# Altium footprint library Daxxn_Packages.PcbLib: 84 footprints (part 1 of 6)
Each footprint in its own frame and in the unit in brackets; x right, y up, seen from the top. Pads: shape width x height; smd on the part's side, far side on the other; paste and mask are expansions set on the pad; w line width, h text height; cw(c..) or ccw(c..) is an arc to the next point about the centre after c.
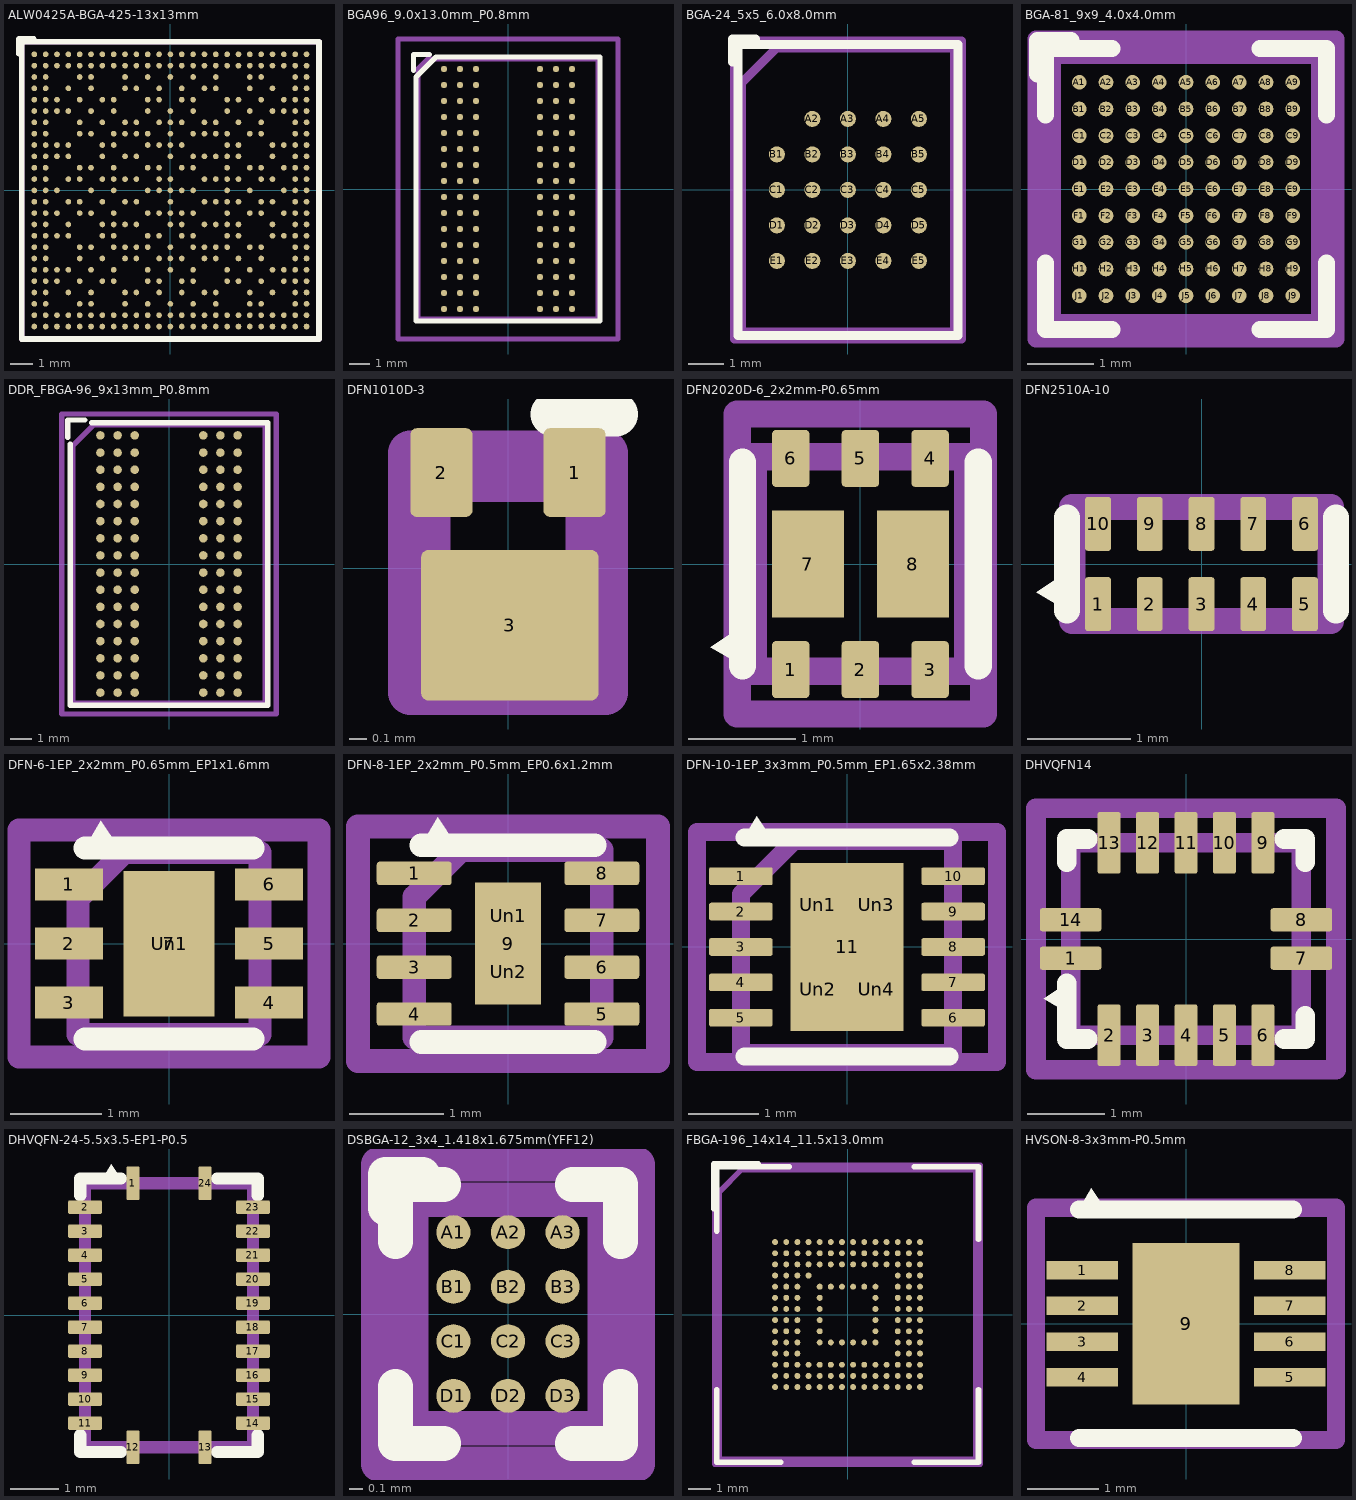
[diagram p0: the footprints below, top view; thin cyan lines are the x and y axes]

## ALW0425A-BGA-425-13x13mm [mm]
pads (425):
  round 0.25 smd: A1(-6,6) A2(-5.5,6) A3(-5,6) A4(-4.5,6) A5(-4,6) A6(-3.5,6) A7(-3,6) A8(-2.5,6) A9(-2,6) A10(-1.5,6) A11(-1,6) A12(-0.5,6) A13(0,6) A14(0.5,6) A15(1,6) A16(1.5,6) A17(2,6) A18(2.5,6) A19(3,6) A20(3.5,6) A21(4,6) A22(4.5,6) A23(5,6) A24(5.5,6) A25(6,6) AA1(-6,-4) AA2(-5.5,-4) AA3(-5,-4) AA5(-4,-4) AA7(-3,-4) AA8(-2.5,-4) AA11(-1,-4) AA12(-0.5,-4) AA14(0.5,-4) AA15(1,-4) AA18(2.5,-4) AA19(3,-4) AA21(4,-4) AA23(5,-4) AA24(5.5,-4) AA25(6,-4) AB1(-6,-4.5) AB2(-5.5,-4.5) AB4(-4.5,-4.5) AB6(-3.5,-4.5) AB9(-2,-4.5) AB10(-1.5,-4.5) AB12(-0.5,-4.5) AB14(0.5,-4.5) AB16(1.5,-4.5) AB17(2,-4.5) AB20(3.5,-4.5) AB22(4.5,-4.5) AB24(5.5,-4.5) AB25(6,-4.5) AC1(-6,-5) AC2(-5.5,-5) AC5(-4,-5) AC6(-3.5,-5) AC9(-2,-5) AC11(-1,-5) AC13(0,-5) AC15(1,-5) AC17(2,-5) AC20(3.5,-5) AC21(4,-5) AC24(5.5,-5) AC25(6,-5) AD1(-6,-5.5) AD2(-5.5,-5.5) AD3(-5,-5.5) AD4(-4.5,-5.5) AD5(-4,-5.5) AD6(-3.5,-5.5) AD7(-3,-5.5) AD8(-2.5,-5.5) AD9(-2,-5.5) AD10(-1.5,-5.5) AD11(-1,-5.5) AD12(-0.5,-5.5) AD13(0,-5.5) AD14(0.5,-5.5) AD15(1,-5.5) AD16(1.5,-5.5) AD17(2,-5.5) AD18(2.5,-5.5) AD19(3,-5.5) AD20(3.5,-5.5) AD21(4,-5.5) AD22(4.5,-5.5) AD23(5,-5.5) AD24(5.5,-5.5) AD25(6,-5.5) AE1(-6,-6) AE2(-5.5,-6) AE3(-5,-6) AE4(-4.5,-6) AE5(-4,-6) AE6(-3.5,-6) AE7(-3,-6) AE8(-2.5,-6) AE9(-2,-6) AE10(-1.5,-6) AE11(-1,-6) AE12(-0.5,-6) AE13(0,-6) AE14(0.5,-6) AE15(1,-6) AE16(1.5,-6) AE17(2,-6) AE18(2.5,-6) AE19(3,-6) AE20(3.5,-6) AE21(4,-6) AE22(4.5,-6) AE23(5,-6) AE24(5.5,-6) AE25(6,-6) B1(-6,5.5) B2(-5.5,5.5) B3(-5,5.5) B4(-4.5,5.5) B5(-4,5.5) B6(-3.5,5.5) B7(-3,5.5) B8(-2.5,5.5) B9(-2,5.5) B10(-1.5,5.5) B11(-1,5.5) B12(-0.5,5.5) B13(0,5.5) B14(0.5,5.5) B15(1,5.5) B16(1.5,5.5) B17(2,5.5) B18(2.5,5.5) B19(3,5.5) B20(3.5,5.5) B21(4,5.5) B22(4.5,5.5) B23(5,5.5) B24(5.5,5.5) B25(6,5.5) C1(-6,5) C2(-5.5,5) C5(-4,5) C6(-3.5,5) C9(-2,5) C11(-1,5) C13(0,5) C15(1,5) C17(2,5) C20(3.5,5) C21(4,5) C24(5.5,5) C25(6,5) D1(-6,4.5) D2(-5.5,4.5) D4(-4.5,4.5) D6(-3.5,4.5) D9(-2,4.5) D10(-1.5,4.5) D12(-0.5,4.5) D14(0.5,4.5) D16(1.5,4.5) D17(2,4.5) D20(3.5,4.5) D22(4.5,4.5) D24(5.5,4.5) D25(6,4.5) E1(-6,4) E2(-5.5,4) E3(-5,4) E5(-4,4) E7(-3,4) E8(-2.5,4) E11(-1,4) E12(-0.5,4) E14(0.5,4) E15(1,4) E18(2.5,4) E19(3,4) E21(4,4) E23(5,4) E24(5.5,4) E25(6,4) F1(-6,3.5) F2(-5.5,3.5) F3(-5,3.5) F4(-4.5,3.5) F6(-3.5,3.5) F8(-2.5,3.5) F11(-1,3.5) F13(0,3.5) F15(1,3.5) F18(2.5,3.5) F20(3.5,3.5) F22(4.5,3.5) F23(5,3.5) F24(5.5,3.5) F25(6,3.5) G1(-6,3) G2(-5.5,3) G5(-4,3) G7(-3,3) G9(-2,3) G10(-1.5,3) G12(-0.5,3) G13(0,3) G14(0.5,3) G16(1.5,3) G17(2,3) G19(3,3) G21(4,3) G24(5.5,3) G25(6,3) H1(-6,2.5) H2(-5.5,2.5) H5(-4,2.5) H6(-3.5,2.5) H8(-2.5,2.5) H9(-2,2.5) H10(-1.5,2.5) H11(-1,2.5) H13(0,2.5) H15(1,2.5) H16(1.5,2.5) H17(2,2.5) H18(2.5,2.5) H20(3.5,2.5) H21(4,2.5) H24(5.5,2.5) H25(6,2.5) J1(-6,2) J2(-5.5,2) J3(-5,2) J4(-4.5,2) J7(-3,2) J8(-2.5,2) J11(-1,2) J12(-0.5,2) J13(0,2) J14(0.5,2) J18(2.5,2) J19(3,2) J22(4.5,2) J23(5,2) J24(5.5,2) J25(6,2) K1(-6,1.5) K2(-5.5,1.5) K3(-5,1.5) K4(-4.5,1.5) K7(-3,1.5) K9(-2,1.5) K10(-1.5,1.5) K13(0,1.5) K15(1,1.5) K16(1.5,1.5) K17(2,1.5) K18(2.5,1.5) K19(3,1.5) K22(4.5,1.5) K24(5.5,1.5) K25(6,1.5) L1(-6,1) L2(-5.5,1) L5(-4,1) L6(-3.5,1) L8(-2.5,1) L11(-1,1) L12(-0.5,1) L14(0.5,1) L15(1,1) L18(2.5,1) L20(3.5,1) L21(4,1) L23(5,1) L24(5.5,1) L25(6,1) M1(-6,0.5) M2(-5.5,0.5) M4(-4.5,0.5) M5(-4,0.5) M7(-3,0.5) M8(-2.5,0.5) M9(-2,0.5) M10(-1.5,0.5) M12(-0.5,0.5) M13(0,0.5) M16(1.5,0.5) M17(2,0.5) M18(2.5,0.5) M19(3,0.5) M21(4,0.5) M22(4.5,0.5) M24(5.5,0.5) M25(6,0.5) N1(-6,0) N2(-5.5,0) N3(-5,0) N6(-3.5,0) N8(-2.5,0) N11(-1,0) N12(-0.5,0) N13(0,0) N14(0.5,0) N15(1,0) N18(2.5,0) N20(3.5,0) N23(5,0) N24(5.5,0) N25(6,0) P1(-6,-0.5) P2(-5.5,-0.5) P4(-4.5,-0.5) P5(-4,-0.5) P7(-3,-0.5) P9(-2,-0.5) P10(-1.5,-0.5) P13(0,-0.5) P16(1.5,-0.5) P17(2,-0.5) P18(2.5,-0.5) P19(3,-0.5) P21(4,-0.5) P22(4.5,-0.5) P24(5.5,-0.5) P25(6,-0.5) R1(-6,-1) R2(-5.5,-1) R3(-5,-1) R5(-4,-1) R6(-3.5,-1) R8(-2.5,-1) R11(-1,-1) R12(-0.5,-1) R13(0,-1) R14(0.5,-1) R15(1,-1) R18(2.5,-1) R20(3.5,-1) R21(4,-1) R23(5,-1) R24(5.5,-1) R25(6,-1) T1(-6,-1.5) T2(-5.5,-1.5) T4(-4.5,-1.5) T7(-3,-1.5) T8(-2.5,-1.5) T9(-2,-1.5) T10(-1.5,-1.5) T13(0,-1.5) T14(0.5,-1.5) T16(1.5,-1.5) T17(2,-1.5) T18(2.5,-1.5) T19(3,-1.5) T22(4.5,-1.5) T24(5.5,-1.5) T25(6,-1.5) U1(-6,-2) U2(-5.5,-2) U3(-5,-2) U4(-4.5,-2) U7(-3,-2) U8(-2.5,-2) U11(-1,-2) U12(-0.5,-2) U14(0.5,-2) U15(1,-2) U18(2.5,-2) U19(3,-2) U22(4.5,-2) U23(5,-2) U24(5.5,-2) U25(6,-2) V1(-6,-2.5) V2(-5.5,-2.5) V5(-4,-2.5) V6(-3.5,-2.5) V8(-2.5,-2.5) V9(-2,-2.5) V10(-1.5,-2.5) V11(-1,-2.5) V13(0,-2.5) V15(1,-2.5) V16(1.5,-2.5) V17(2,-2.5) V18(2.5,-2.5) V20(3.5,-2.5) V21(4,-2.5) V24(5.5,-2.5) V25(6,-2.5) W1(-6,-3) W2(-5.5,-3) W5(-4,-3) W7(-3,-3) W9(-2,-3) W10(-1.5,-3) W12(-0.5,-3) W13(0,-3) W14(0.5,-3) W16(1.5,-3) W17(2,-3) W19(3,-3) W21(4,-3) W24(5.5,-3) W25(6,-3) Y1(-6,-3.5) Y2(-5.5,-3.5) Y3(-5,-3.5) Y4(-4.5,-3.5) Y6(-3.5,-3.5) Y8(-2.5,-3.5) Y11(-1,-3.5) Y13(0,-3.5) Y15(1,-3.5) Y18(2.5,-3.5) Y20(3.5,-3.5) Y22(4.5,-3.5) Y23(5,-3.5) Y24(5.5,-3.5) Y25(6,-3.5)
F.SilkS:
  lines w0.254: -6.675,6.025 -6.675,6.675 -6.025,6.675 ; -6.55,-6.55 -6.55,6.55 6.55,6.55 6.55,-6.55 -6.55,-6.55
F.Fab:
  lines w0.254: -6.55,-6.55 -6.55,6.55 6.55,6.55 6.55,-6.55 -6.55,-6.55
  text "'.Designator'" at -1.037,0.015 h0.25

## BGA96_9.0x13.0mm_P0.8mm [mm]
pads (96):
  round 0.32 smd: A1(-3.2,6) A2(-2.4,6) A3(-1.6,6) A7(1.6,6) A8(2.4,6) A9(3.2,6) B1(-3.2,5.2) B2(-2.4,5.2) B3(-1.6,5.2) B7(1.6,5.2) B8(2.4,5.2) B9(3.2,5.2) C1(-3.2,4.4) C2(-2.4,4.4) C3(-1.6,4.4) C7(1.6,4.4) C8(2.4,4.4) C9(3.2,4.4) D1(-3.2,3.6) D2(-2.4,3.6) D3(-1.6,3.6) D7(1.6,3.6) D8(2.4,3.6) D9(3.2,3.6) E1(-3.2,2.8) E2(-2.4,2.8) E3(-1.6,2.8) E7(1.6,2.8) E8(2.4,2.8) E9(3.2,2.8) F1(-3.2,2) F2(-2.4,2) F3(-1.6,2) F7(1.6,2) F8(2.4,2) F9(3.2,2) G1(-3.2,1.2) G2(-2.4,1.2) G3(-1.6,1.2) G7(1.6,1.2) G8(2.4,1.2) G9(3.2,1.2) H1(-3.2,0.4) H2(-2.4,0.4) H3(-1.6,0.4) H7(1.6,0.4) H8(2.4,0.4) H9(3.2,0.4) J1(-3.2,-0.4) J2(-2.4,-0.4) J3(-1.6,-0.4) J7(1.6,-0.4) J8(2.4,-0.4) J9(3.2,-0.4) K1(-3.2,-1.2) K2(-2.4,-1.2) K3(-1.6,-1.2) K7(1.6,-1.2) K8(2.4,-1.2) K9(3.2,-1.2) L1(-3.2,-2) L2(-2.4,-2) L3(-1.6,-2) L7(1.6,-2) L8(2.4,-2) L9(3.2,-2) M1(-3.2,-2.8) M2(-2.4,-2.8) M3(-1.6,-2.8) M7(1.6,-2.8) M8(2.4,-2.8) M9(3.2,-2.8) N1(-3.2,-3.6) N2(-2.4,-3.6) N3(-1.6,-3.6) N7(1.6,-3.6) N8(2.4,-3.6) N9(3.2,-3.6) P1(-3.2,-4.4) P2(-2.4,-4.4) P3(-1.6,-4.4) P7(1.6,-4.4) P8(2.4,-4.4) P9(3.2,-4.4) R1(-3.2,-5.2) R2(-2.4,-5.2) R3(-1.6,-5.2) R7(1.6,-5.2) R8(2.4,-5.2) R9(3.2,-5.2) T1(-3.2,-6) T2(-2.4,-6) T3(-1.6,-6) T7(1.6,-6) T8(2.4,-6) T9(3.2,-6)
F.SilkS:
  lines w0.254: -4.725,5.925 -4.725,6.725 -3.925,6.725 ; -4.6,-6.6 -4.6,5.6 -3.6,6.6 4.6,6.6 4.6,-6.6 -4.6,-6.6
F.CrtYd:
  lines w0.254: -5.5,-7.5 -5.5,7.5 5.5,7.5 5.5,-7.5 -5.5,-7.5
F.Fab:
  lines w0.254: -4.5,-6.5 -4.5,6 -4,6.5 4.5,6.5 4.5,-6.5 -4.5,-6.5
  text "'.Designator'" at 0.07,-2.073 h0.5

## BGA-24_5x5_6.0x8.0mm [mm]
pads (24):
  round 0.45 smd: A2(-1,2) A3(0,2) A4(1,2) A5(2,2) B1(-2,1) B2(-1,1) B3(0,1) B4(1,1) B5(2,1) C1(-2,0) C2(-1,0) C3(0,0) C4(1,0) C5(2,0) D1(-2,-1) D2(-1,-1) D3(0,-1) D4(1,-1) D5(2,-1) E1(-2,-2) E2(-1,-2) E3(0,-2) E4(1,-2) E5(2,-2)
F.SilkS:
  lines w0.254: -3.25,3.6 -3.25,4.25 -2.6,4.25 ; -3.1,-4.1 -3.1,4.1 3.1,4.1 3.1,-4.1 -3.1,-4.1
F.CrtYd:
  lines w0.254: -3.2,-4.2 -3.2,4.2 3.2,4.2 3.2,-4.2 -3.2,-4.2
F.Fab:
  lines w0.254: -3,-4 -3,3 -2,4 3,4 3,-4 -3,-4
  text "'.Designator'" at -1.037,0.065 h0.25

## BGA-81_9x9_4.0x4.0mm [mm]
pads (81):
  round 0.22 smd: A1(-1.6,1.6) A2(-1.2,1.6) A3(-0.8,1.6) A4(-0.4,1.6) A5(0,1.6) A6(0.4,1.6) A7(0.8,1.6) A8(1.2,1.6) A9(1.6,1.6) B1(-1.6,1.2) B2(-1.2,1.2) B3(-0.8,1.2) B4(-0.4,1.2) B5(0,1.2) B6(0.4,1.2) B7(0.8,1.2) B8(1.2,1.2) B9(1.6,1.2) C1(-1.6,0.8) C2(-1.2,0.8) C3(-0.8,0.8) C4(-0.4,0.8) C5(0,0.8) C6(0.4,0.8) C7(0.8,0.8) C8(1.2,0.8) C9(1.6,0.8) D1(-1.6,0.4) D2(-1.2,0.4) D3(-0.8,0.4) D4(-0.4,0.4) D5(0,0.4) D6(0.4,0.4) D7(0.8,0.4) D8(1.2,0.4) D9(1.6,0.4) E1(-1.6,0) E2(-1.2,0) E3(-0.8,0) E4(-0.4,0) E5(0,0) E6(0.4,0) E7(0.8,0) E8(1.2,0) E9(1.6,0) F1(-1.6,-0.4) F2(-1.2,-0.4) F3(-0.8,-0.4) F4(-0.4,-0.4) F5(0,-0.4) F6(0.4,-0.4) F7(0.8,-0.4) F8(1.2,-0.4) F9(1.6,-0.4) G1(-1.6,-0.8) G2(-1.2,-0.8) G3(-0.8,-0.8) G4(-0.4,-0.8) G5(0,-0.8) G6(0.4,-0.8) G7(0.8,-0.8) G8(1.2,-0.8) G9(1.6,-0.8) H1(-1.6,-1.2) H2(-1.2,-1.2) H3(-0.8,-1.2) H4(-0.4,-1.2) H5(0,-1.2) H6(0.4,-1.2) H7(0.8,-1.2) H8(1.2,-1.2) H9(1.6,-1.2) J1(-1.6,-1.6) J2(-1.2,-1.6) J3(-0.8,-1.6) J4(-0.4,-1.6) J5(0,-1.6) J6(0.4,-1.6) J7(0.8,-1.6) J8(1.2,-1.6) J9(1.6,-1.6)
F.SilkS:
  lines w0.254: -2.225,1.725 -2.225,2.225 -1.725,2.225 ; -2.11,-1.11 -2.11,-2.11 -1.11,-2.11 ; -2.11,1.11 -2.11,2.11 -1.11,2.11 ; 1.11,-2.11 2.11,-2.11 2.11,-1.11 ; 1.11,2.11 2.11,2.11 2.11,1.11
F.CrtYd:
  lines w0.254: -2.25,-2.25 -2.25,2.25 2.25,2.25 2.25,-2.25 -2.25,-2.25
F.Fab:
  lines w0.254: -2,-2 -2,2 2,2 2,-2 -2,-2

## DDR_FBGA-96_9x13mm_P0.8mm [mm]
pads (96):
  round 0.4 smd: A1(-3.2,6) A2(-2.4,6) A3(-1.6,6) A7(1.6,6) A8(2.4,6) A9(3.2,6) B1(-3.2,5.2) B2(-2.4,5.2) B3(-1.6,5.2) B7(1.6,5.2) B8(2.4,5.2) B9(3.2,5.2) C1(-3.2,4.4) C2(-2.4,4.4) C3(-1.6,4.4) C7(1.6,4.4) C8(2.4,4.4) C9(3.2,4.4) D1(-3.2,3.6) D2(-2.4,3.6) D3(-1.6,3.6) D7(1.6,3.6) D8(2.4,3.6) D9(3.2,3.6) E1(-3.2,2.8) E2(-2.4,2.8) E3(-1.6,2.8) E7(1.6,2.8) E8(2.4,2.8) E9(3.2,2.8) F1(-3.2,2) F2(-2.4,2) F3(-1.6,2) F7(1.6,2) F8(2.4,2) F9(3.2,2) G1(-3.2,1.2) G2(-2.4,1.2) G3(-1.6,1.2) G7(1.6,1.2) G8(2.4,1.2) G9(3.2,1.2) H1(-3.2,0.4) H2(-2.4,0.4) H3(-1.6,0.4) H7(1.6,0.4) H8(2.4,0.4) H9(3.2,0.4) J1(-3.2,-0.4) J2(-2.4,-0.4) J3(-1.6,-0.4) J7(1.6,-0.4) J8(2.4,-0.4) J9(3.2,-0.4) K1(-3.2,-1.2) K2(-2.4,-1.2) K3(-1.6,-1.2) K7(1.6,-1.2) K8(2.4,-1.2) K9(3.2,-1.2) L1(-3.2,-2) L2(-2.4,-2) L3(-1.6,-2) L7(1.6,-2) L8(2.4,-2) L9(3.2,-2) M1(-3.2,-2.8) M2(-2.4,-2.8) M3(-1.6,-2.8) M7(1.6,-2.8) M8(2.4,-2.8) M9(3.2,-2.8) N1(-3.2,-3.6) N2(-2.4,-3.6) N3(-1.6,-3.6) N7(1.6,-3.6) N8(2.4,-3.6) N9(3.2,-3.6) P1(-3.2,-4.4) P2(-2.4,-4.4) P3(-1.6,-4.4) P7(1.6,-4.4) P8(2.4,-4.4) P9(3.2,-4.4) R1(-3.2,-5.2) R2(-2.4,-5.2) R3(-1.6,-5.2) R7(1.6,-5.2) R8(2.4,-5.2) R9(3.2,-5.2) T1(-3.2,-6) T2(-2.4,-6) T3(-1.6,-6) T7(1.6,-6) T8(2.4,-6) T9(3.2,-6)
F.SilkS:
  lines w0.254: -4.73,5.92 -4.73,6.72 -3.93,6.72 ; -4.61,5.6 -4.61,-6.6 4.61,-6.6 4.61,6.6 -3.61,6.6
F.CrtYd:
  lines w0.254: -5,-7 -5,7 5,7 5,-7 -5,-7
F.Fab:
  lines w0.254: -4.5,-6.5 -4.5,5.5 -3.5,6.5 4.5,6.5 4.5,-6.5 -4.5,-6.5
  text "'.Designator'" at 0.07,-2.073 h0.5

## DFN1010D-3 [mm]
pads (3):
  rrect20% 0.35x0.5 smd: 1(0.375,0.54) 2(-0.375,0.54)
  rrect10% 1x0.85 smd: 3(0.01,-0.32)
F.SilkS:
  lines w0.254: 0.255,0.87 0.605,0.87
F.Paste:
  region: 0.4,-0.7 -0.4,-0.7 -0.4,-0.4 0.4,-0.4
  lines w0.254: -0.4,-0.7 -0.4,-0.4 0.4,-0.4 0.4,-0.7 -0.4,-0.7
F.CrtYd:
  lines w0.254: -0.55,-0.7 -0.55,0.65 0.55,0.65 0.55,-0.7 -0.55,-0.7
F.Fab:
  lines w0.254: -0.45,-0.5 -0.45,0.5 0.45,0.5 0.45,-0.5 -0.45,-0.5
  text "'.Designator'" at -1.037,1.005 h0.25

## DFN2020D-6_2x2mm-P0.65mm [mm]
pads (8):
  rrect20% 0.35x0.53 smd: 1(-0.65,-0.985) 2(0,-0.985) 3(0.65,-0.985) 4(0.65,0.985) 5(0,0.985) 6(-0.65,0.985)
  rect 0.67x1 smd: 7(-0.49,0) 8(0.49,0)
F.SilkS:
  region: -1.1,-0.95 -1.4,-0.775 -1.1,-0.575
  lines w0.254: -1.1,-0.95 -1.1,0.95 ; 1.1,-0.95 1.1,0.95
F.CrtYd:
  lines w0.254: -1.15,-1.4 -1.15,1.4 1.15,1.4 1.15,-1.4 -1.15,-1.4
F.Fab:
  lines w0.254: -1,-1 -1,1 1,1 1,-1 -1,-1
  text "'.Designator'" at -1.037,0.015 h0.25

## DFN2510A-10 [mm]
pads (10):
  rrect20% 0.25x0.52 smd: 1(-1,-0.387) 2(-0.5,-0.387) 3(0,-0.387) 4(0.5,-0.387) 5(1,-0.387) 6(1,0.387) 7(0.5,0.387) 8(0,0.387) 9(-0.5,0.387) 10(-1,0.387)
F.SilkS:
  region: -1.3,-0.45 -1.6,-0.275 -1.3,-0.075
  lines w0.254: -1.3,-0.45 -1.3,0.45 ; 1.3,-0.45 1.3,0.45
F.Fab:
  lines w0.254: -1.25,-0.55 -1.25,0.55 1.25,0.55 1.25,-0.55 -1.25,-0.55
  text "'.Designator'" at -0.829,-0.038 h0.2

## DFN-6-1EP_2x2mm_P0.65mm_EP1x1.6mm [mm]
pads (8):
  rect 0.75x0.35 smd: 1(-1.1,0.65) 2(-1.1,0) 3(-1.1,-0.65) 4(1.1,-0.65) 5(1.1,0) 6(1.1,0.65)
  rect 1x1.6 smd: 7(0,0)
  rect 0.82x1 on Top Paste: Un1(0,0)
F.SilkS:
  region: -0.55,1.05 -0.925,1.05 -0.75,1.35
  lines w0.254: -0.925,-1.05 0.925,-1.05 ; -0.925,1.05 0.925,1.05
F.CrtYd:
  lines w0.254: -1.65,-1.25 -1.65,1.25 1.65,1.25 1.65,-1.25 -1.65,-1.25
F.Fab:
  lines w0.254: -1,-1 -1,0.5 -0.5,1 1,1 1,-1 -1,-1
  text "'.Designator'" at -1.037,-0.235 h0.25

## DFN-8-1EP_2x2mm_P0.5mm_EP0.6x1.2mm [mm]
pads (11):
  rrect25% 0.8x0.25 smd: 1(-1,0.75) 2(-1,0.25) 3(-1,-0.25) 4(-1,-0.75) 5(1,-0.75) 6(1,-0.25) 7(1,0.25) 8(1,0.75)
  rect 0.7x1.3 smd: 9(0,0)
  rrect25% 0.48x0.48 on Top Paste: Un1(0,0.3) Un2(0,-0.3)
F.SilkS:
  region: -0.55,1.05 -0.925,1.05 -0.75,1.35
  lines w0.254: -0.925,-1.05 0.925,-1.05 ; -0.925,1.05 0.925,1.05
F.CrtYd:
  lines w0.254: -1.6,-1.25 -1.6,1.25 1.6,1.25 1.6,-1.25 -1.6,-1.25
F.Fab:
  lines w0.254: -1,-1 -1,0.5 -0.5,1 1,1 1,-1 -1,-1
  text "'.Designator'" at -1.037,-0.01 h0.25

## DFN-10-1EP_3x3mm_P0.5mm_EP1.65x2.38mm [mm]
pads (15):
  rrect20% 0.9x0.25 smd: 1(-1.5,1)
  rrect25% 0.9x0.25 smd: 2(-1.5,0.5) 3(-1.5,0) 4(-1.5,-0.5) 5(-1.5,-1) 6(1.5,-1) 7(1.5,-0.5) 8(1.5,0) 9(1.5,0.5) 10(1.5,1)
  rect 1.6x2.38 smd: 11(0,0)
  rrect25% 0.67x0.96 on Top Paste: Un1(-0.41,0.595) Un2(-0.41,-0.595) Un3(0.41,0.595) Un4(0.41,-0.595)
F.SilkS:
  region: -1.075,1.55 -1.45,1.55 -1.275,1.85
  lines w0.254: -1.45,-1.55 1.45,-1.55 ; -1.45,1.55 1.45,1.55
F.CrtYd:
  lines w0.254: -2.12,-1.625 -2.12,1.625 2.12,1.625 2.12,-1.625 -2.12,-1.625
F.Fab:
  lines w0.254: -1.5,-1.5 -1.5,0.75 -0.75,1.5 1.5,1.5 1.5,-1.5 -1.5,-1.5
  text "'.Designator'" at -1.037,0.065 h0.25

## DHVQFN14 [mm]
pads (14):
  rrect20% 0.8x0.3 smd: 1(-1.5,-0.25) 7(1.5,-0.25) 8(1.5,0.25) 14(-1.5,0.25)
  rrect20% 0.3x0.8 smd: 2(-1,-1.25) 3(-0.5,-1.25) 4(0,-1.25) 5(0.5,-1.25) 6(1,-1.25) 9(1,1.25) 10(0.5,1.25) 11(0,1.25) 12(-0.5,1.25) 13(-1,1.25)
F.SilkS:
  region: -1.55,-0.95 -1.85,-0.775 -1.55,-0.575
  lines w0.254: -1.55,-0.575 -1.55,-1.3 -1.275,-1.3 ; -1.55,1 -1.55,1.3 -1.275,1.3 ; 1.275,-1.3 1.55,-1.3 1.55,-1 ; 1.275,1.3 1.55,1.3 1.55,1
F.CrtYd:
  lines w0.254: -1.95,-1.7 -1.95,1.7 1.95,1.7 1.95,-1.7 -1.95,-1.7
F.Fab:
  lines w0.254: -1.5,-1.25 -1.5,1.25 1.5,1.25 1.5,-1.25 -1.5,-1.25
  text "'.Designator'" at -0.999,0.002 h0.25

## DHVQFN-24-5.5x3.5-EP1-P0.5 [mm]
pads (24):
  rrect20% 0.28x0.7 smd: 1(-0.75,2.75) 12(-0.75,-2.75) 13(0.75,-2.75) 24(0.75,2.75)
  rrect20% 0.7x0.28 smd: 2(-1.75,2.25) 3(-1.75,1.75) 4(-1.75,1.25) 5(-1.75,0.75) 6(-1.75,0.25) 7(-1.75,-0.25) 8(-1.75,-0.75) 9(-1.75,-1.25) 10(-1.75,-1.75) 11(-1.75,-2.25) 14(1.75,-2.25) 15(1.75,-1.75) 16(1.75,-1.25) 17(1.75,-0.75) 18(1.75,-0.25) 19(1.75,0.25) 20(1.75,0.75) 21(1.75,1.25) 22(1.75,1.75) 23(1.75,2.25)
F.SilkS:
  region: -1,2.85 -1.375,2.85 -1.2,3.15
  lines w0.254: -1.85,-2.5 -1.85,-2.85 -1,-2.85 ; -1.85,2.5 -1.85,2.85 -1,2.85 ; 1,-2.85 1.85,-2.85 1.85,-2.5 ; 1,2.85 1.85,2.85 1.85,2.5
F.Fab:
  lines w0.254: -1.75,-2.75 -1.75,2.75 1.75,2.75 1.75,-2.75 -1.75,-2.75
  text "'.Designator'" at -0.015,-1.037 h0.25

## DSBGA-12_3x4_1.418x1.675mm(YFF12) [mm]
pads (12):
  round 0.25 smd: A1(-0.4,0.6) A2(0,0.6) A3(0.4,0.6) B1(-0.4,0.2) B2(0,0.2) B3(0.4,0.2) C1(-0.4,-0.2) C2(0,-0.2) C3(0.4,-0.2) D1(-0.4,-0.6) D2(0,-0.6) D3(0.4,-0.6)
F.SilkS:
  lines w0.254: -0.9,0.775 -0.9,1.025 -0.625,1.025 ; -0.825,-0.531 -0.825,-0.95 -0.47,-0.95 ; -0.825,0.531 -0.825,0.95 -0.47,0.95 ; 0.47,-0.95 0.825,-0.95 0.825,-0.531 ; 0.47,0.95 0.825,0.95 0.825,0.531
F.CrtYd:
  lines w0.254: -0.95,-1.1 -0.95,1.1 0.95,1.1 0.95,-1.1 -0.95,-1.1
F.Fab:
  lines w0.254: -0.709,-0.837 -0.709,0.837 0.709,0.837 0.709,-0.837 -0.709,-0.837
  text "'.Designator'" at -0.999,0.052 h0.25

## FBGA-196_14x14_11.5x13.0mm [mm]
pads (153):
  round 0.265 smd: A1(-3.25,3.25) A2(-2.75,3.25) A3(-2.25,3.25) A4(-1.75,3.25) A5(-1.25,3.25) A6(-0.75,3.25) A7(-0.25,3.25) A8(0.25,3.25) A9(0.75,3.25) A10(1.25,3.25) A11(1.75,3.25) A12(2.25,3.25) A13(2.75,3.25) A14(3.25,3.25) B1(-3.25,2.75) B2(-2.75,2.75) B3(-2.25,2.75) B4(-1.75,2.75) B5(-1.25,2.75) B6(-0.75,2.75) B7(-0.25,2.75) B8(0.25,2.75) B9(0.75,2.75) B10(1.25,2.75) B11(1.75,2.75) B12(2.25,2.75) B13(2.75,2.75) B14(3.25,2.75) C1(-3.25,2.25) C2(-2.75,2.25) C3(-2.25,2.25) C4(-1.75,2.25) C5(-1.25,2.25) C6(-0.75,2.25) C7(-0.25,2.25) C8(0.25,2.25) C9(0.75,2.25) C10(1.25,2.25) C11(1.75,2.25) C12(2.25,2.25) C13(2.75,2.25) C14(3.25,2.25) D1(-3.25,1.75) D2(-2.75,1.75) D3(-2.25,1.75) D4(-1.75,1.75) D12(2.25,1.75) D13(2.75,1.75) D14(3.25,1.75) E1(-3.25,1.25) E2(-2.75,1.25) E3(-2.25,1.25) E5(-1.25,1.25) E6(-0.75,1.25) E7(-0.25,1.25) E8(0.25,1.25) E9(0.75,1.25) E10(1.25,1.25) E12(2.25,1.25) E13(2.75,1.25) E14(3.25,1.25) F1(-3.25,0.75) F2(-2.75,0.75) F3(-2.25,0.75) F5(-1.25,0.75) F10(1.25,0.75) F12(2.25,0.75) F13(2.75,0.75) F14(3.25,0.75) G1(-3.25,0.25) G2(-2.75,0.25) G3(-2.25,0.25) G5(-1.25,0.25) G10(1.25,0.25) G12(2.25,0.25) G13(2.75,0.25) G14(3.25,0.25) H1(-3.25,-0.25) H2(-2.75,-0.25) H3(-2.25,-0.25) H5(-1.25,-0.25) H10(1.25,-0.25) H12(2.25,-0.25) H13(2.75,-0.25) H14(3.25,-0.25) J1(-3.25,-0.75) J2(-2.75,-0.75) J3(-2.25,-0.75) J5(-1.25,-0.75) J10(1.25,-0.75) J12(2.25,-0.75) J13(2.75,-0.75) J14(3.25,-0.75) K1(-3.25,-1.25) K2(-2.75,-1.25) K3(-2.25,-1.25) K5(-1.25,-1.25) K6(-0.75,-1.25) K7(-0.25,-1.25) K8(0.25,-1.25) K9(0.75,-1.25) K10(1.25,-1.25) K12(2.25,-1.25) K13(2.75,-1.25) K14(3.25,-1.25) L1(-3.25,-1.75) L2(-2.75,-1.75) L3(-2.25,-1.75) L12(2.25,-1.75) L13(2.75,-1.75) L14(3.25,-1.75) M1(-3.25,-2.25) M2(-2.75,-2.25) M3(-2.25,-2.25) M4(-1.75,-2.25) M5(-1.25,-2.25) M6(-0.75,-2.25) M7(-0.25,-2.25) M8(0.25,-2.25) M9(0.75,-2.25) M10(1.25,-2.25) M11(1.75,-2.25) M12(2.25,-2.25) M13(2.75,-2.25) M14(3.25,-2.25) N1(-3.25,-2.75) N2(-2.75,-2.75) N3(-2.25,-2.75) N4(-1.75,-2.75) N5(-1.25,-2.75) N6(-0.75,-2.75) N7(-0.25,-2.75) N8(0.25,-2.75) N9(0.75,-2.75) N10(1.25,-2.75) N11(1.75,-2.75) N12(2.25,-2.75) N13(2.75,-2.75) N14(3.25,-2.75) P1(-3.25,-3.25) P2(-2.75,-3.25) P3(-2.25,-3.25) P4(-1.75,-3.25) P5(-1.25,-3.25) P6(-0.75,-3.25) P7(-0.25,-3.25) P8(0.25,-3.25) P9(0.75,-3.25) P10(1.25,-3.25) P11(1.75,-3.25) P12(2.25,-3.25) P13(2.75,-3.25) P14(3.25,-3.25)
F.SilkS:
  lines w0.254: -6,4.75 -6,6.75 -4,6.75 ; -5.87,-3.37 -5.87,-6.62 -2.995,-6.62 ; -5.87,3.745 -5.87,6.62 -2.62,6.62 ; 2.995,-6.62 5.87,-6.62 5.87,-3.37 ; 2.995,6.62 5.87,6.62 5.87,3.37
F.CrtYd:
  lines w0.254: -5.95,-6.7 -5.95,6.7 5.95,6.7 5.95,-6.7 -5.95,-6.7
F.Fab:
  lines w0.254: -5.75,-6.5 -5.75,5.5 -4.75,6.5 5.75,6.5 5.75,-6.5 -5.75,-6.5
  text "'.Designator'" at -1.037,0.015 h0.25

## HVSON-8-3x3mm-P0.5mm [mm]
pads (9):
  rect 1x0.26 smd: 1(-1.45,0.75) 2(-1.45,0.25) 3(-1.45,-0.25) 4(-1.45,-0.75) 5(1.45,-0.75) 6(1.45,-0.25) 7(1.45,0.25) 8(1.45,0.75)
  rect 1.5x2.26 smd: 9(0,0)
F.SilkS:
  region: -1.125,1.6 -1.5,1.6 -1.325,1.9
  lines w0.254: -1.5,-1.6 1.5,-1.6 ; -1.5,1.6 1.5,1.6
F.CrtYd:
  lines w0.254: -2.1,-1.625 -2.1,1.625 2.1,1.625 2.1,-1.625 -2.1,-1.625
F.Fab:
  text "'.Designator'" at -1.037,0.04 h0.25